# Altium footprint library 降压模块.PcbLib: 7 footprints
Each footprint in its own frame and in the unit in brackets; x right, y up, seen from the top. Pads: shape width x height; smd on the part's side, far side on the other; paste and mask are expansions set on the pad; w line width, h text height; cw(c..) or ccw(c..) is an arc to the next point about the centre after c.
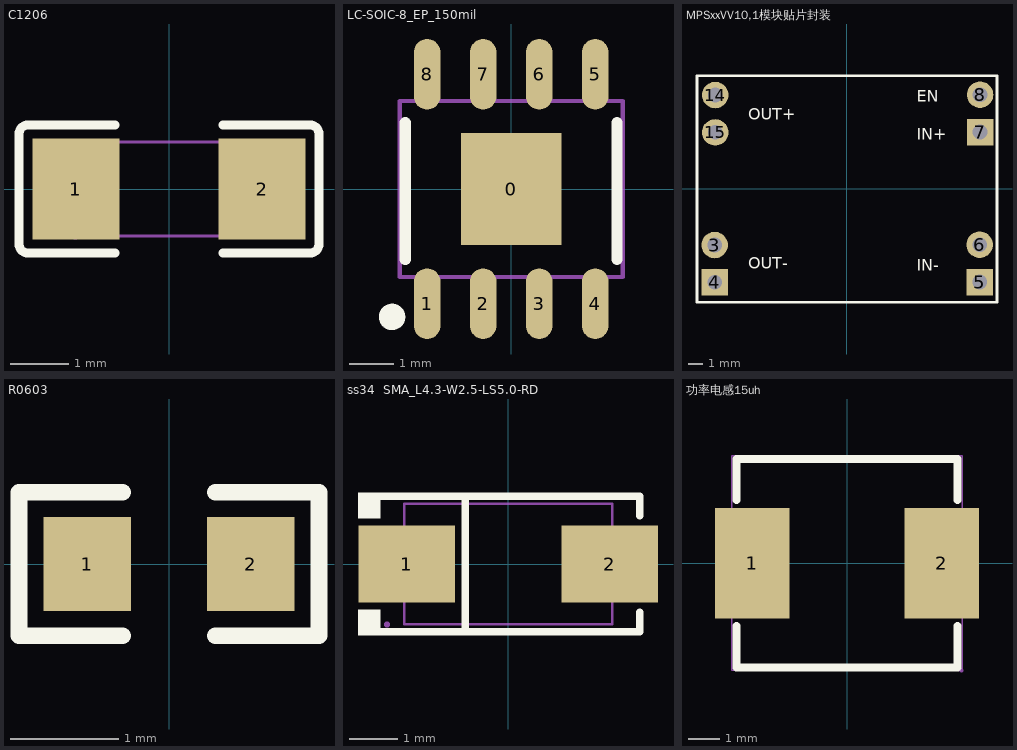
[diagram p0: the footprints below, top view; thin cyan lines are the x and y axes]

## C1206 [mm]
pads (2):
  rect 1.485x1.728 smd paste-100 mask+0.051: 1(-1.593,0) 2(1.593,0)
Top Overlay:
  lines w0.152: -0.926,-1.093 -2.411,-1.093 cw(c-2.411,-0.94) -2.564,-0.94 -2.564,0.94 cw(c-2.411,0.94) -2.411,1.093 -0.926,1.093 ; 0.926,-1.093 2.411,-1.093 ccw(c2.411,-0.94) 2.564,-0.94 2.564,0.94 ccw(c2.411,0.94) 2.411,1.093 0.926,1.093
Top Paste:
  region: 0.85,-0.764 0.85,-0.394 0.95,-0.294 1.255,-0.294 1.355,-0.194 1.355,0.194 1.255,0.294 0.95,0.294 0.85,0.394 0.85,0.764 0.95,0.864 2.235,0.864 2.335,0.764 2.335,-0.764 2.235,-0.864 0.95,-0.864
  region: -0.85,-0.764 -0.85,-0.394 -0.95,-0.294 -1.255,-0.294 -1.355,-0.194 -1.355,0.194 -1.255,0.294 -0.95,0.294 -0.85,0.394 -0.85,0.764 -0.95,0.864 -2.235,0.864 -2.335,0.764 -2.335,-0.764 -2.235,-0.864 -0.95,-0.864
Mechanical 15:
  region: -1.54,-0.8 -1.54,-0.775 -1.575,-0.74 -1.625,-0.74 -1.66,-0.775 -1.66,-0.8 -1.66,-0.825 -1.625,-0.86 -1.575,-0.86 -1.54,-0.825 -1.54,-0.8
  region: -1.6,-0.8 -1.6,0.8 -1.1,0.8 -1.1,-0.8
  region: 1.6,-0.8 1.6,0.8 1.1,0.8 1.1,-0.8
  lines w0.051: -1.6,-0.8 -1.6,0.8 1.6,0.8 1.6,-0.8 -1.6,-0.8

## LC-SOIC-8_EP_150mil [mm]
pads (9):
  rect 2.286x2.54 smd: 0(0,0)
  oval 0.6x1.6 smd: 1(-1.905,-2.6) 2(-0.635,-2.6) 3(0.635,-2.6) 4(1.905,-2.6) 5(1.905,2.6) 6(0.635,2.6) 7(-0.635,2.6) 8(-1.905,2.6)
Top Overlay:
  circle w0.3: c-2.7,-2.9 r0.15
  lines w0.254: -2.4,-1.6 -2.4,1.5 ; 2.4,-1.6 2.4,1.5
Mechanical 13:
  lines w0.1: -2.525,-1.995 2.525,-1.995 2.525,1.995 -2.525,1.995 -2.525,-1.995

## MPSxxVV10,1模块贴片封装 [mm]
pads (8):
  round 1.8 hole 1 paste+0 mask+0.051: 3(-9,-3.81) 6(9.02,-3.79) 8(9.05,6.41) 14(-8.96,6.39) 15(-8.96,3.85)
  rect 1.8x1.8 hole 1 paste+0 mask+0.051: 4(-9,-6.35) 5(9.02,-6.33) 7(9.05,3.87)
Top Layer:
  region: -9.28,6.07 -9.28,6.71 -8.64,6.71 -8.64,6.07
  region: -9.28,3.53 -9.28,4.17 -8.64,4.17 -8.64,3.53
Top Overlay:
  lines w0.2: -10.2,-7.7 -10.2,7.7 10.2,7.7 10.2,-7.7 -10.2,-7.7
  text "OUT+" at -6.71,4.71 h0.8
  text "OUT-" at -6.71,-5.41 h0.8
  text "IN-" at 4.75,-5.57 h0.8
  text "IN+" at 4.75,3.36 h0.8
  text "EN" at 4.75,5.93 h0.8
Mechanical 15:
  region: 8.73,6.09 8.73,6.73 9.37,6.73 9.37,6.09
  region: 8.73,3.55 8.73,4.19 9.37,4.19 9.37,3.55
  region: 8.7,-4.11 8.7,-3.47 9.34,-3.47 9.34,-4.11
  region: 8.7,-6.65 8.7,-6.01 9.34,-6.01 9.34,-6.65
  region: -9.32,-4.13 -9.32,-3.49 -8.68,-3.49 -8.68,-4.13
  region: -9.32,-6.67 -9.32,-6.03 -8.68,-6.03 -8.68,-6.67

## PCBComponent_1 [mm]

## R0603 [mm]
pads (2):
  rect 0.806x0.864 smd paste-100 mask+0.051: 1(-0.753,0) 2(0.753,0)
Top Overlay:
  lines w0.152: -0.426,-0.661 -1.385,-0.661 -1.385,0.661 -0.426,0.661 ; 0.426,-0.661 1.385,-0.661 1.385,0.661 0.426,0.661
Top Paste:
  region: -0.355,0.4 -0.355,0.172 -0.735,0.172 -0.735,-0.158 -0.355,-0.158 -0.355,-0.4 -0.405,-0.45 -1.195,-0.45 -1.245,-0.4 -1.245,0.4 -1.195,0.45 -0.405,0.45
  region: 1.195,0.45 0.395,0.45 0.345,0.4 0.345,0.172 0.715,0.172 0.715,-0.158 0.345,-0.158 0.345,-0.4 0.395,-0.45 1.195,-0.45 1.245,-0.4 1.245,0.4

## ss34  SMA_L4.3-W2.5-LS5.0-RD [mm]
pads (2):
  rect 2x1.593 smd paste+0 mask+0.051: 1(-2.1,0) 2(2.1,0)
Top Overlay:
  region: -2.65,1.477 -2.65,0.949 -3.107,0.949 -3.107,1.477
  region: -2.65,-1.477 -2.65,-0.949 -3.107,-0.949 -3.107,-1.477
  lines w0.152: -2.726,-1.401 2.726,-1.401 2.726,-1 ; -2.726,1.401 2.726,1.401 2.726,1 ; -0.886,-1.401 -0.886,1.401
Mechanical 6:
  region: -2.451,-0.099 -2.451,0.099 -1.656,0.099 -1.656,-0.099
  region: 2.451,-0.099 2.451,0.099 1.656,0.099 1.656,-0.099
  region: 2.153,-0.663 2.153,0.663 1.954,0.663 1.954,-0.663
Mechanical 15:
  region: -2.447,-1.25 -2.447,-1.225 -2.482,-1.19 -2.532,-1.19 -2.567,-1.225 -2.567,-1.25 -2.567,-1.275 -2.532,-1.31 -2.482,-1.31 -2.447,-1.275 -2.447,-1.25
  region: -1.307,0.725 -1.307,-0.725 -2.507,-0.725 -2.507,0.725
  region: 1.307,-0.725 1.307,0.725 2.507,0.725 2.507,-0.725
  lines w0.051: -2.15,-1.25 -2.15,1.25 2.15,1.25 2.15,-1.25 -2.15,-1.25

## 功率电感15uh [mm]
pads (2):
  rect 2.35x3.5 smd paste+0 mask+0.051: 1(-3,0) 2(3,0)
Top Overlay:
  lines w0.254: -3.5,-2 -3.5,-3.3 3.5,-3.3 3.5,-2 ; -3.5,2 -3.5,3.3 3.5,3.3 3.5,2
Mechanical 15:
  region: -3.65,1.45 -2.05,1.45 -2.05,-1.45 -3.65,-1.45
  region: 2.05,1.45 3.65,1.45 3.65,-1.45 2.05,-1.45
  region: 3.68,-3.4 3.68,-3.375 3.645,-3.34 3.595,-3.34 3.56,-3.375 3.56,-3.4 3.56,-3.425 3.595,-3.46 3.645,-3.46 3.68,-3.425 3.68,-3.4
  lines w0.051: -3.65,-3.4 3.65,-3.4 3.65,3.4 -3.65,3.4 -3.65,-3.4